# Altium footprint library myLib.PcbLib: 9 footprints
Each footprint in its own frame and in the unit in brackets; x right, y up, seen from the top. Pads: shape width x height; smd on the part's side, far side on the other; paste and mask are expansions set on the pad; w line width, h text height; cw(c..) or ccw(c..) is an arc to the next point about the centre after c.
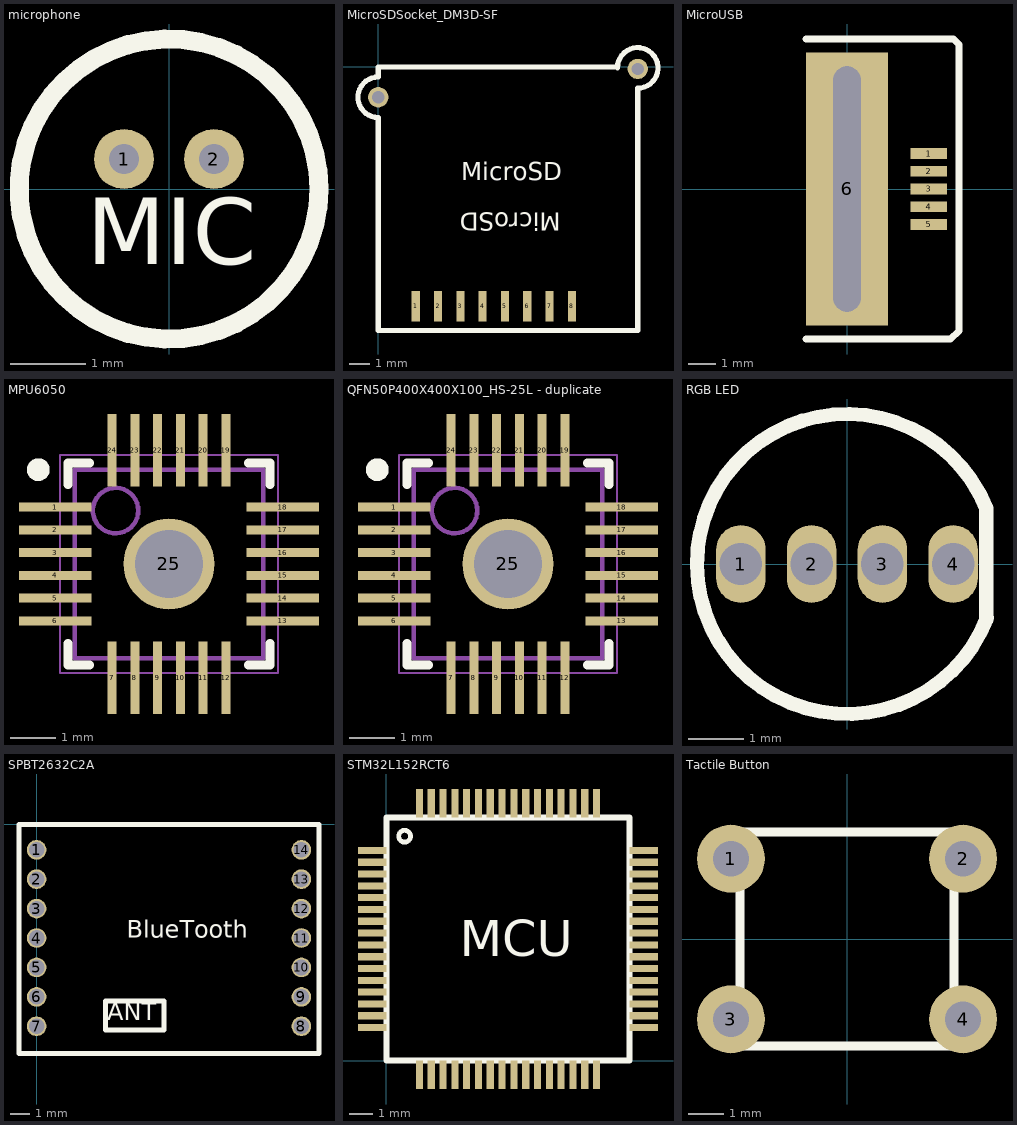
[diagram p0: the footprints below, top view; thin cyan lines are the x and y axes]

## microphone [mm]
pads (2):
  round 0.8 hole 0.4: 1(-0.6,0.4) 2(0.6,0.4)
Top Overlay:
  circle w0.254: c0,0 r2
  text "MIC" at -1.1,-1.3 h1.52

## MicroSDSocket_DM3D-SF [mm]
height 2
pads (10):
  rect 0.4x1.5 smd: 1(1.85,-11.8) 2(2.95,-11.8) 3(4.05,-11.8) 4(5.15,-11.8) 5(6.25,-11.8) 6(7.35,-11.8) 7(8.45,-11.8) 8(9.55,-11.8)
  round 1 hole 0.6: ""(0,-1.5) ""(12.8,-0.1)
Top Overlay:
  lines w0.254: 11.8,-0.05 cw(c12.8,-0.05) 12.8,-1.05 12.8,-13 0,-13 0,-2.5 cw(c0,-1.5) 0,-0.5 0,0 2.5,0 11.8,0
  text "MicroSD" at 9,-6.9 h1.52
  text "MicroSD" at 4.1,-5.9 h1.52

## MicroUSB [mm]
pads (6):
  rect 1.35x0.4 smd: 1(3,1.3) 2(3,0.65) 3(3,0) 4(3,-0.65) 5(3,-1.3)
  rect 3x10 hole 1 slot 9 at 90 deg: 6(0,0)
Top Overlay:
  lines w0.254: -1.5,-5.5 3.8,-5.5 4.1,-5.2 4.1,5.3 3.9,5.5 -1.5,5.5

## MPU6050 [mm] "QFN, 24-Leads, Body 4.00x4.00mm, Pitch 0.50mm, Thermal Pad 3.00x3.00mm, IPC High Density"
height 1
pads (25):
  rect 1.6x0.2 smd: 1(-12.5,11.25) 2(-12.5,10.75) 3(-12.5,10.25) 4(-12.5,9.75) 5(-12.5,9.25) 6(-12.5,8.75) 13(-7.5,8.75) 14(-7.5,9.25) 15(-7.5,9.75) 16(-7.5,10.25) 17(-7.5,10.75) 18(-7.5,11.25)
  rect 0.2x1.6 smd: 7(-11.25,7.5) 8(-10.75,7.5) 9(-10.25,7.5) 10(-9.75,7.5) 11(-9.25,7.5) 12(-8.75,7.5) 19(-8.75,12.5) 20(-9.25,12.5) 21(-9.75,12.5) 22(-10.25,12.5) 23(-10.75,12.5) 24(-11.25,12.5)
  round 2 hole 1.5: 25(-10,10)
Top Overlay:
  circle w0.25: c-12.875,12.075 r0.125
  lines w0.2: -12.225,8.25 -12.225,7.775 -11.75,7.775 ; -12.225,11.75 -12.225,12.225 -11.75,12.225 ; -8.25,7.775 -7.775,7.775 -7.775,8.25 ; -8.25,12.225 -7.775,12.225 -7.775,11.75
Mechanical 13:
  circle w0.1: c-11.175,11.175 r0.5
  lines w0.1: -12.075,7.925 -12.075,12.075 -7.925,12.075 -7.925,7.925 -12.075,7.925
Mechanical 15:
  lines w0.05: -12.4,7.6 -12.4,12.4 -7.6,12.4 -7.6,7.6 -12.4,7.6
  lines w0.1: -10.5,10 -9.5,10 ; -10,9.5 -10,10.5
3D body: height 1, standoff 0.01, extent -12.075,7.925 -7.925,12.075

## QFN50P400X400X100_HS-25L - duplicate [mm] "QFN, 24-Leads, Body 4.00x4.00mm, Pitch 0.50mm, Thermal Pad 3.00x3.00mm, IPC High Density"
height 1
pads (25):
  rect 1.6x0.2 smd: 1(-12.5,11.25) 2(-12.5,10.75) 3(-12.5,10.25) 4(-12.5,9.75) 5(-12.5,9.25) 6(-12.5,8.75) 13(-7.5,8.75) 14(-7.5,9.25) 15(-7.5,9.75) 16(-7.5,10.25) 17(-7.5,10.75) 18(-7.5,11.25)
  rect 0.2x1.6 smd: 7(-11.25,7.5) 8(-10.75,7.5) 9(-10.25,7.5) 10(-9.75,7.5) 11(-9.25,7.5) 12(-8.75,7.5) 19(-8.75,12.5) 20(-9.25,12.5) 21(-9.75,12.5) 22(-10.25,12.5) 23(-10.75,12.5) 24(-11.25,12.5)
  round 2 hole 1.5: 25(-10,10)
Top Overlay:
  circle w0.25: c-12.875,12.075 r0.125
  lines w0.2: -12.225,8.25 -12.225,7.775 -11.75,7.775 ; -12.225,11.75 -12.225,12.225 -11.75,12.225 ; -8.25,7.775 -7.775,7.775 -7.775,8.25 ; -8.25,12.225 -7.775,12.225 -7.775,11.75
Mechanical 13:
  circle w0.1: c-11.175,11.175 r0.5
  lines w0.1: -12.075,7.925 -7.925,7.925 -7.925,12.075 -12.075,12.075 -12.075,7.925
Mechanical 15:
  lines w0.05: -12.4,7.6 -7.6,7.6 -7.6,12.4 -12.4,12.4 -12.4,7.6
  lines w0.1: -10.5,10 -9.5,10 ; -10,9.5 -10,10.5
3D body: height 1, standoff 0.01, extent -12.075,7.925 -7.925,12.075

## RGB LED [mil] "YSL-R596CR4G3B5W-F12"
height 340.94
pads (4):
  oval 35x55 hole 30: 1(-75,0) 2(-25,0) 3(25,0) 4(75,0)
Top Overlay:
  lines w10: 98.29,39.71 ccw(c0,0) 98.97,-37.99 ; 98.43,-39.37 98.43,39.37

## SPBT2632C2A [mm]
pads (14):
  round 1 hole 0.8: 1(0,-1.3) 2(0,-2.8) 3(0,-4.3) 4(0,-5.8) 5(0,-7.3) 6(0,-8.8) 7(0,-10.3) 8(13.5,-10.3) 9(13.5,-8.8) 10(13.5,-7.3) 11(13.5,-5.8) 12(13.5,-4.3) 13(13.5,-2.8) 14(13.5,-1.3)
Top Overlay:
  lines w0.254: -0.9,-11.7 -0.9,0 14.4,0 14.4,-11.7 -0.9,-11.7 ; 3.5,-10.5 6.5,-10.5 6.5,-9 3.5,-9 3.5,-10.5
  text "ANT" at 3.6,-10.3 h1.52
  text "BlueTooth" at 4.6,-6.1 h1.52

## STM32L152RCT6 [mm]
height 1.6
pads (64):
  rect 1.2x0.3 all layers, no hole: 1(-0.6,8.9) 2(-0.6,8.4) 3(-0.6,7.9) 4(-0.6,7.4) 5(-0.6,6.9) 6(-0.6,6.4) 7(-0.6,5.9) 8(-0.6,5.4) 9(-0.6,4.9) 10(-0.6,4.4) 11(-0.6,3.9) 12(-0.6,3.4) 13(-0.6,2.9) 14(-0.6,2.4) 15(-0.6,1.9) 16(-0.6,1.4) 33(10.9,1.4) 34(10.9,1.9) 35(10.9,2.4) 36(10.9,2.9) 37(10.9,3.4) 38(10.9,3.9) 39(10.9,4.4) 40(10.9,4.9) 41(10.9,5.4) 42(10.9,5.9) 43(10.9,6.4) 44(10.9,6.9) 45(10.9,7.4) 46(10.9,7.9) 47(10.9,8.4) 48(10.9,8.9)
  rect 0.3x1.2 all layers, no hole: 17(1.4,-0.6) 18(1.9,-0.6) 19(2.4,-0.6) 20(2.9,-0.6) 21(3.4,-0.6) 22(3.9,-0.6) 23(4.4,-0.6) 24(4.9,-0.6) 25(5.4,-0.6) 26(5.9,-0.6) 27(6.4,-0.6) 28(6.9,-0.6) 29(7.4,-0.6) 30(7.9,-0.6) 31(8.4,-0.6) 32(8.9,-0.6) 49(8.9,10.9) 50(8.4,10.9) 51(7.9,10.9) 52(7.4,10.9) 53(6.9,10.9) 54(6.4,10.9) 55(5.9,10.9) 56(5.4,10.9) 57(4.9,10.9) 58(4.4,10.9) 59(3.9,10.9) 60(3.4,10.9) 61(2.9,10.9) 62(2.4,10.9) 63(1.9,10.9) 64(1.4,10.9)
Top Overlay:
  circle w0.2: c0.775,9.5 r0.25
  lines w0.254: 0,0 0,10.3 10.3,10.3 10.3,0 0,0
  text "MCU" at 3.1,4.425 h1.52

## Tactile Button [mm] "Sparkfun  COM-00097"
pads (4):
  round 1.9 hole 1: 1(-3.25,2.25) 2(3.25,2.25) 3(-3.25,-2.25) 4(3.25,-2.25)
Top Overlay:
  lines w0.254: -3,-3 3,-3 3,3 -3,3 -3,-3